# Altium schematic symbol library IND-2.SchLib: 1 symbol
Pins are listed as number, name and electrical type; pins without a type are passive.

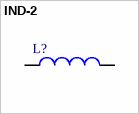
[diagram p0: symbol IND-2]

## IND-2
designator L?
footprint INDP113100X100N (Precision Wire Wound Inductor, 2-Leads, Body 11.30x10.00mm, IPC Medium Density)
pins: 1, 2